# EAGLE library part E32-400M30S (library E32-400M30S)
Check availability <https://pricing.snapeda.com/parts/E32-400M30S/EBYTE/view-part?ref=eda>
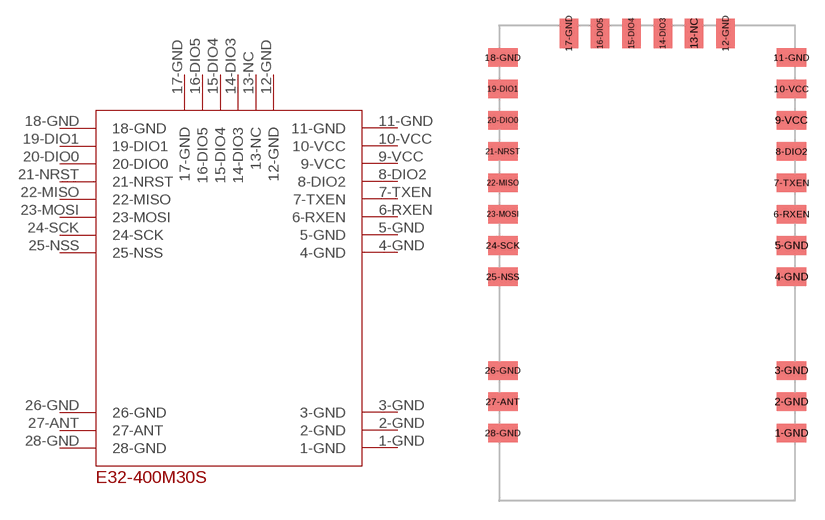
[diagram p0: symbol with the pads of E32-400M30S; footprint E32-400M30S]

Designator prefix -

## E32-400M30S (AVAILABILITY: Not in stock; DESCRIPTION: SX1278 433/470MHz SPI SMD LoRa Module; MF: EBYTE; MP: E32-400M30S; PACKAGE: Package; PRICE: None)  [E32-400M30S]
1-GND  1-GND
2-GND  2-GND
3-GND  3-GND
4-GND  4-GND
5-GND  5-GND
6-RXEN  6-RXEN
7-TXEN  7-TXEN
8-DIO2  8-DIO2
9-VCC  9-VCC
10-VCC  10-VCC
11-GND  11-GND
12-GND  12-GND
13-NC  13-NC
14-DIO3  14-DIO3
15-DIO4  15-DIO4
16-DIO5  16-DIO5
17-GND  17-GND
18-GND  18-GND
19-DIO1  19-DIO1
20-DIO0  20-DIO0
21-NRST  21-NRST
22-MISO  22-MISO
23-MOSI  23-MOSI
24-SCK  24-SCK
25-NSS  25-NSS
26-GND  26-GND
27-ANT  27-ANT
28-GND  28-GND

## Footprint E32-400M30S (pad centres in mm)
smd 2.4 x 1.5: 1-GND 23.7,5.46; 2-GND 23.7,8; 3-GND 23.7,10.54; 4-GND 23.7,18.14; 5-GND 23.7,20.68; 6-RXEN 23.7,23.22; 7-TXEN 23.7,25.76; 8-DIO2 23.7,28.3; 9-VCC 23.7,30.84; 10-VCC 23.7,33.38; 11-GND 23.7,35.92; 18-GND 0.3,35.92; 19-DIO1 0.3,33.38; 20-DIO0 0.3,30.84; 21-NRST 0.3,28.3; 22-MISO 0.3,25.76; 23-MOSI 0.3,23.22; 24-SCK 0.3,20.68; 25-NSS 0.3,18.14; 26-GND 0.3,10.54; 27-ANT 0.3,8; 28-GND 0.3,5.46
smd 1.5 x 2.4: 12-GND 18.35,37.9; 13-NC 15.81,37.9; 14-DIO3 13.27,37.9; 15-DIO4 10.73,37.9; 16-DIO5 8.19,37.9; 17-GND 5.65,37.9